# Altium footprint library blecontrollerPCB1_master.PcbLib: 180 footprints (part 4 of 12)
Each footprint in its own frame and in the unit in brackets; x right, y up, seen from the top. Pads: shape width x height; smd on the part's side, far side on the other; paste and mask are expansions set on the pad; w line width, h text height; cw(c..) or ccw(c..) is an arc to the next point about the centre after c.
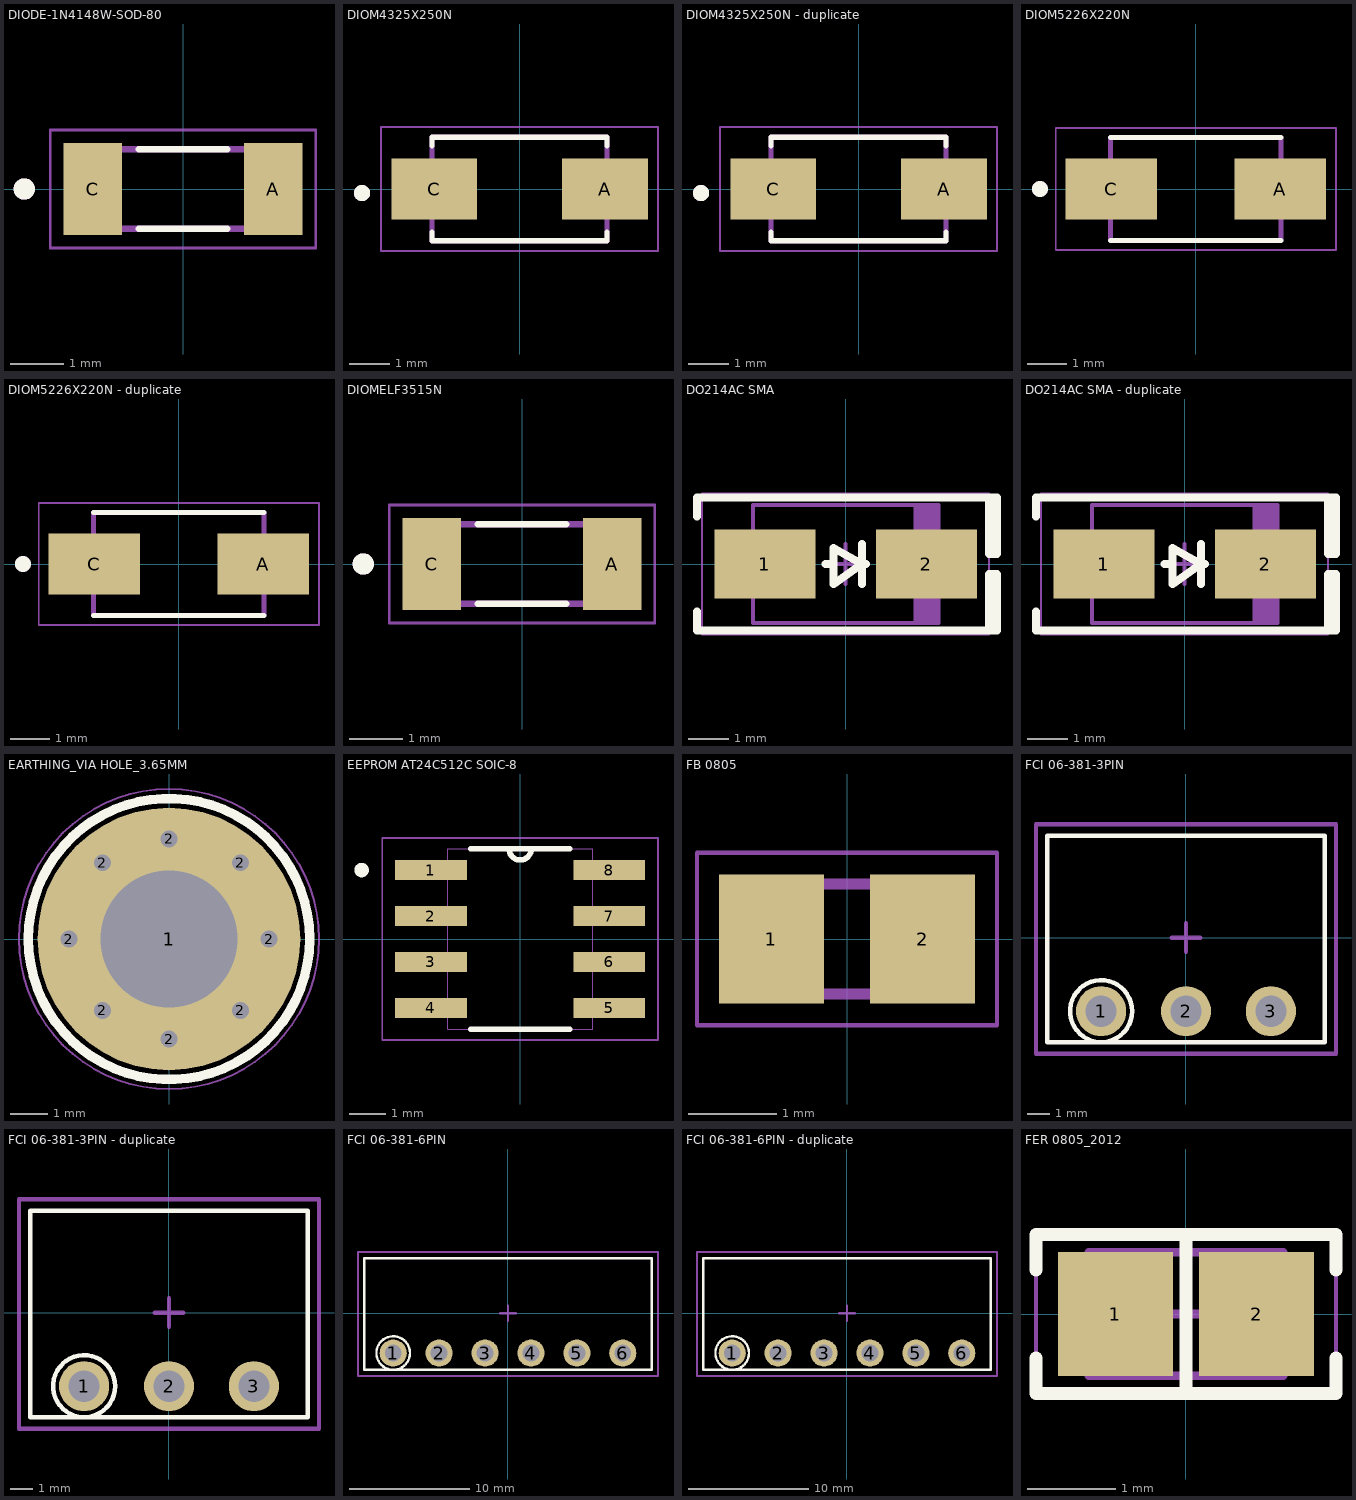
[diagram p3: the footprints below, top view; thin cyan lines are the x and y axes]

## DIODE-1N4148W-SOD-80 [mm] "DIODE-1N4148W-SOD-80 is a general-purpose silicon diode LL4148_L1G"
pads (2):
  rect 1.11x1.73 smd: A(1.705,0) C(-1.705,0)
Top Overlay:
  circle w0.2: c-3,0 r0.1
  lines w0.127: -0.83,-0.75 0.83,-0.75 ; -0.83,0.75 0.83,0.75
Mechanical 13:
  circle w0.2: c-3,0 r0.1
  lines w0.127: -1.75,-0.75 -1.75,0.75 1.75,0.75 1.75,-0.75 -1.75,-0.75
Mechanical 15:
  lines w0.05: -2.51,-1.115 -2.51,1.115 2.51,1.115 2.51,-1.115 -2.51,-1.115
3D body "LL4148 L1G.STEP": height 1.57, standoff -0.03, extent -1.75,-0.762 1.75,0.826

## DIOM4325X250N [mm]
pads (2):
  rect 2.12x1.5 smd: A(2.115,0) C(-2.115,0)
Top Overlay:
  circle w0.2: c-3.9,-0.1 r0.1
  lines w0.127: -2.165,-1.07 -2.165,-1.28 2.165,-1.28 2.165,-1.07 ; -2.165,1.07 -2.165,1.28 2.165,1.28 2.165,1.07
Mechanical 13:
  circle w0.2: c-3.9,-0.1 r0.1
  lines w0.127: -2.165,-1.28 2.165,-1.28 2.165,1.28 -2.165,1.28 -2.165,-1.28
Mechanical 15:
  lines w0.05: -3.425,-1.53 3.425,-1.53 3.425,1.53 -3.425,1.53 -3.425,-1.53
3D body "step_temp.STEP": height 2.5, standoff 0, extent -2.57,-1.28 2.57,1.28

## DIOM4325X250N - duplicate [mm]
pads (2):
  rect 2.12x1.5 smd: A(2.115,0) C(-2.115,0)
Top Overlay:
  circle w0.2: c-3.9,-0.1 r0.1
  lines w0.127: -2.165,-1.07 -2.165,-1.28 2.165,-1.28 2.165,-1.07 ; -2.165,1.07 -2.165,1.28 2.165,1.28 2.165,1.07
Mechanical 13:
  circle w0.2: c-3.9,-0.1 r0.1
  lines w0.127: -2.165,-1.28 2.165,-1.28 2.165,1.28 -2.165,1.28 -2.165,-1.28
Mechanical 15:
  lines w0.05: -3.425,-1.53 3.425,-1.53 3.425,1.53 -3.425,1.53 -3.425,-1.53
3D body "step_temp.STEP": height 2.5, standoff 0, extent -2.57,-1.28 2.57,1.28

## DIOM5226X220N [mm]
pads (2):
  rect 2.32x1.55 smd: A(2.14,0) C(-2.14,0)
Top Overlay:
  circle w0.2: c-3.95,0 r0.1
  lines w0.127: -2.16,-1.3 2.16,-1.3 ; -2.16,1.3 2.16,1.3
Mechanical 13:
  circle w0.2: c-3.95,0 r0.1
  lines w0.127: -2.16,-1.3 2.16,-1.3 2.16,1.3 -2.16,1.3 -2.16,-1.3
Mechanical 15:
  lines w0.05: -3.55,-1.55 -3.55,1.55 3.55,1.55 3.55,-1.55 -3.55,-1.55
3D body "step_temp.STEP": height 2.21, standoff 0, extent -2.603,-1.308 2.603,1.308

## DIOM5226X220N - duplicate [mm]
pads (2):
  rect 2.32x1.55 smd: A(2.14,0) C(-2.14,0)
Top Overlay:
  circle w0.2: c-3.95,0 r0.1
  lines w0.127: -2.16,-1.3 2.16,-1.3 ; -2.16,1.3 2.16,1.3
Mechanical 13:
  circle w0.2: c-3.95,0 r0.1
  lines w0.127: -2.16,-1.3 2.16,-1.3 2.16,1.3 -2.16,1.3 -2.16,-1.3
Mechanical 15:
  lines w0.05: -3.55,-1.55 -3.55,1.55 3.55,1.55 3.55,-1.55 -3.55,-1.55
3D body "step_temp.STEP": height 2.21, standoff 0, extent -2.603,-1.308 2.603,1.308

## DIOMELF3515N [mm]
pads (2):
  rect 1.11x1.73 smd: A(1.705,0) C(-1.705,0)
Top Overlay:
  circle w0.2: c-3,0 r0.1
  lines w0.127: -0.83,-0.75 0.83,-0.75 ; -0.83,0.75 0.83,0.75
Mechanical 13:
  circle w0.2: c-3,0 r0.1
  lines w0.127: -1.75,-0.75 1.75,-0.75 1.75,0.75 -1.75,0.75 -1.75,-0.75
Mechanical 15:
  lines w0.05: -2.51,-1.115 2.51,-1.115 2.51,1.115 -2.51,1.115 -2.51,-1.115
3D body "LL4148 L1G.STEP": height 1.57, standoff -0.03, extent -1.75,-0.762 1.75,0.826

## DO214AC SMA [mm]
pads (2):
  rect 2.5x1.7 smd: 1(-2,0) 2(2,0)
Top Overlay:
  lines w0.2: -3.683,-1.175 -3.683,-1.651 3.75,-1.651 3.75,-0.254 3.556,-0.254 3.556,-1.651 ; -3.683,1.175 -3.683,1.651 3.75,1.651 3.75,0.254 3.556,0.254 3.556,1.651 ; -0.5,0 -0.3,0 ; 0.4,-0.5 0.4,0.5 ; 0.5,0 0.4,0 ; 0.4,0 -0.3,0.4 -0.3,-0.5 0.4,0
Mechanical 13:
  rectangle: 1.681,-1.46 2.3,1.46
  lines w0.1: -2.3,-1.46 -2.3,1.46 2.3,1.46 2.3,-1.46 -2.3,-1.46
Mechanical 15:
  lines w0.05: -3.556,-1.75 -3.556,1.75 3.556,1.75 3.556,-1.75 -3.556,-1.75
  lines w0.1: -0.5,0 0.5,0 ; 0,-0.5 0,0.5
3D body "SMA.STEP": height 2.4, standoff 0, extent -2.6,-1.375 2.6,1.375

## DO214AC SMA - duplicate [mm]
pads (2):
  rect 2.5x1.7 smd: 1(-2,0) 2(2,0)
Top Overlay:
  lines w0.2: -3.683,-1.175 -3.683,-1.651 3.75,-1.651 3.75,-0.254 3.556,-0.254 3.556,-1.651 ; -3.683,1.175 -3.683,1.651 3.75,1.651 3.75,0.254 3.556,0.254 3.556,1.651 ; -0.5,0 -0.3,0 ; 0.4,-0.5 0.4,0.5 ; 0.5,0 0.4,0 ; 0.4,0 -0.3,0.4 -0.3,-0.5 0.4,0
Mechanical 13:
  rectangle: 1.681,-1.46 2.3,1.46
  lines w0.1: -2.3,-1.46 -2.3,1.46 2.3,1.46 2.3,-1.46 -2.3,-1.46
Mechanical 15:
  lines w0.05: -3.556,-1.75 -3.556,1.75 3.556,1.75 3.556,-1.75 -3.556,-1.75
  lines w0.1: -0.5,0 0.5,0 ; 0,-0.5 0,0.5
3D body "SMA.STEP": height 2.4, standoff 0, extent -2.6,-1.375 2.6,1.375

## EARTHING_VIA HOLE_3.65MM [mm] "EARTHING VIA HOLE 3.65MM"
pads (9):
  round 7 hole 3.65: 1(0,0)
  round 0.5 hole 0.45: 2(-2.667,0) 2(-1.778,-1.905) 2(-1.778,2.032) 2(0,-2.667) 2(0,2.667) 2(1.905,-1.905) 2(1.905,2.032) 2(2.667,0)
Top Overlay:
  circle w0.254: c0,0 r3.75
Mechanical 15:
  circle w0.05: c0,0 r4

## EEPROM AT24C512C SOIC-8 [mil] "EEPROM Memory IC 512Kb (64K x 8) IÂ²C 400 kHz 900 ns SOIC-8 AT24C512C-SSHM-T"
pads (8):
  rect 78x22 smd: 1(-97,75) 2(-97,25) 3(-97,-25) 4(-97,-75) 5(97,-75) 6(97,-25) 7(97,25) 8(97,75)
Top Overlay:
  circle w7.87: c-172.48,75 r3.94
  lines w6: -54,-98 54,-98 ; -54,98 -12,98 ; 54,98 12,98 ; -12,98 ccw(c0,98) 12,98 ; -12,98 12,98
Mechanical 13:
  lines w0: -12,98 ccw(c0,98) 12,98 ; -12,98 -79,98 -79,-98 79,-98 79,98 12,98 ; -12,98 12,98 ; -122,-85 -79,-85 -79,-65 -122,-65 -122,-85 ; -122,-35 -79,-35 -79,-15 -122,-15 -122,-35 ; -122,15 -79,15 -79,35 -122,35 -122,15 ; -122,65 -79,65 -79,85 -122,85 -122,65 ; 79,-85 122,-85 122,-65 79,-65 79,-85 ; 79,-35 122,-35 122,-15 79,-15 79,-35 ; 79,15 122,15 122,35 79,35 79,15 ; 79,65 122,65 122,85 79,85 79,65
Mechanical 15:
  lines w1.97: -150,-110 150,-110 150,110 -150,110 -150,-110
3D body "step_temp.STEP": height 68.9, standoff 0, extent -118.11,-96.46 118.11,96.46

## FB 0805 [mm] "MH2029-101Y-Bourns Inc.-Ferrite Bead, 100 Ohms @ 100 MHz , Signal Line Ferrite Bead 0805 (2012 Metric) 2A 100mOhm"
pads (2):
  rect 1.2x1.47 smd: 1(-0.86,0) 2(0.86,0)
Mechanical 13:
  lines w0.127: -1,-0.625 1,-0.625 1,0.625 -1,0.625 -1,-0.625
Mechanical 15:
  lines w0.05: -1.708,-0.983 1.708,-0.983 1.708,0.983 -1.708,0.983 -1.708,-0.983

## FCI 06-381-3PIN [mm]
pads (3):
  round 2.25 hole 1.4: 1(-3.81,-3.302) 2(0,-3.302) 3(3.81,-3.302)
Top Overlay:
  circle w0.2: c-3.81,-3.302 r1.393
  lines w0.2: -6.223,-4.699 6.223,-4.699 6.223,4.572 -6.223,4.572 -6.223,-4.699
Mechanical 15:
  lines w0.2: -0.635,0 0.635,0 ; 0,-0.635 0,0.635 ; -6.731,-5.207 6.731,-5.207 6.731,5.08 -6.731,5.08 -6.731,-5.207
3D body "FCI 06-381 3Pos.STEP": height 7.6, standoff -3.52, extent -6.31,-4.699 6.31,4.501

## FCI 06-381-3PIN - duplicate [mm]
pads (3):
  round 2.25 hole 1.4: 1(-3.81,-3.302) 2(0,-3.302) 3(3.81,-3.302)
Top Overlay:
  circle w0.2: c-3.81,-3.302 r1.393
  lines w0.2: -6.223,-4.699 6.223,-4.699 6.223,4.572 -6.223,4.572 -6.223,-4.699
Mechanical 15:
  lines w0.2: -0.635,0 0.635,0 ; 0,-0.635 0,0.635 ; -6.731,-5.207 6.731,-5.207 6.731,5.08 -6.731,5.08 -6.731,-5.207
3D body "FCI 06-381 3Pos.STEP": height 7.6, standoff -3.52, extent -6.31,-4.699 6.31,4.501

## FCI 06-381-6PIN [mm]
pads (6):
  round 2.25 hole 1.4: 1(-9.525,-3.302) 2(-5.715,-3.302) 3(-1.905,-3.302) 4(1.905,-3.302) 5(5.715,-3.302) 6(9.525,-3.302)
Top Overlay:
  circle w0.2: c-9.525,-3.302 r1.393
  lines w0.2: -11.938,-4.699 -11.938,4.572 11.938,4.572 11.938,-4.699 -11.938,-4.699
Mechanical 15:
  lines w0.2: -0.635,0 0.635,0 ; 0,-0.635 0,0.635 ; -12.446,-5.207 -12.446,5.08 12.446,5.08 12.446,-5.207 -12.446,-5.207
3D body "FCI 06-381 6Pos.STEP": height 7.6, standoff -3.52, extent -12.025,-4.699 12.025,4.501

## FCI 06-381-6PIN - duplicate [mm]
pads (6):
  round 2.25 hole 1.4: 1(-9.525,-3.302) 2(-5.715,-3.302) 3(-1.905,-3.302) 4(1.905,-3.302) 5(5.715,-3.302) 6(9.525,-3.302)
Top Overlay:
  circle w0.2: c-9.525,-3.302 r1.393
  lines w0.2: -11.938,-4.699 -11.938,4.572 11.938,4.572 11.938,-4.699 -11.938,-4.699
Mechanical 15:
  lines w0.2: -0.635,0 0.635,0 ; 0,-0.635 0,0.635 ; -12.446,-5.207 -12.446,5.08 12.446,5.08 12.446,-5.207 -12.446,-5.207
3D body "FCI 06-381 6Pos.STEP": height 7.6, standoff -3.52, extent -12.025,-4.699 12.025,4.501

## FER 0805_2012 [mm]
pads (2):
  rect 1.3x1.4 smd: 1(-0.8,0) 2(0.8,0)
Top Overlay:
  lines w0.15: -1.7,-0.5 -1.7,-0.9 1.7,-0.9 1.7,-0.5 ; -1.7,0.5 -1.7,0.9 1.7,0.9 1.7,0.5 ; 0,-0.9 0,0.9
Mechanical 13:
  lines w0.1: -1.1,-0.7 -1.1,0.7 1.1,0.7 1.1,-0.7 -1.1,-0.7
Mechanical 15:
  lines w0.05: -1.7,-0.95 -1.7,0.95 1.7,0.95 1.7,-0.95 -1.7,-0.95
  lines w0.1: -0.5,0 0.5,0 ; 0,-0.5 0,0.5
3D body "FER 0805.STEP": height 1.26, standoff -0.02, extent -1,-0.637 1,0.637